# Altium integrated library Maxim Power Mgt Battery Charger.IntLib: 2 symbols
Pins are listed as number, name and electrical type; pins without a type are passive.

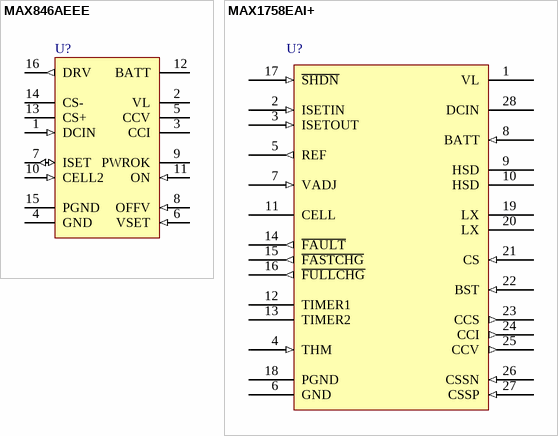
[diagram p0: symbols MAX846AEEE to MAX1758EAI+]

## MAX846AEEE
designator U?
Cost-Saving Multichemistry Battery-Charger System; Published: 16-Jan-2001; LatestRevisionDate: 29-May-2009; LatestRevisionNote: IPC-7351 Footprint Added.; DatasheetVersion: Sep-1996; PackageVersion: 1998; PackageReference: SOP16; Publisher: Altium Limited; PackageDescription: 16-Pin Small Outline Package 0.635 mm Pitch; Code_JEDEC: MO-137-AB; Code_IPC: SOP635P600-16; ComponentLink1Description: Manufacturer Link; ComponentLink1URL: http://www.maxim-ic.com/; ComponentLink2Description: Datasheet; ComponentLink2URL: http://pdfserv.maxim-ic.com/en/ds/MAX846A.pdf
footprint SOP16_N (SOP, 16-Leads, Body 4.9x3.9mm, Pitch 0.635mm, IPC Medium Density)
footprint SOP16_L (SOP, 16-Leads, Body 4.9x3.9mm, Pitch 0.635mm, IPC High Density)
footprint SOP16_M (SOP, 16-Leads, Body 4.9x3.9mm, Pitch 0.635mm, IPC Low Density)
3D model SOP16 (16-Pin Small Outline Package 0.635 mm Pitch)
pins: 1 DCIN (in), 2 VL, 3 CCI, 4 GND (power), 5 CCV, 6 VSET (in), 7 ISET (io), 8 OFFV (in), 9 PWROK (oc), 10 CELL2 (in), 11 ON (in), 12 BATT, 13 CS+, 14 CS-, 15 PGND (power), 16 DRV (out)

## MAX1758EAI+
designator U?
Stand-Alone, Switch-Mode Li+ Battery Charger with Internal 28V Switch; Published: 30-May-2008; DatasheetVersion: Jan-2001; PackageVersion: Jul-2000; PackageReference: SSOP28; Publisher: Altium Limited; PackageDescription: 28-Pin Small Outline Package 0.65 mm Pitch; Code_JEDEC: MO-150-AH; Code_IPC: SOP65P780-28; ComponentLink1Description: Manufacturer Link; ComponentLink1URL: http://www.maxim-ic.com/; ComponentLink2Description: Datasheet; ComponentLink2URL: http://datasheets.maxim-ic.com/en/ds/MAX1758.pdf
footprint SSOP28_N (SOP, 28-Leads, Body 10.2x5.3mm, Pitch 0.65mm, IPC Medium Density)
footprint SSOP28_L (SOP, 28-Leads, Body 10.2x5.3mm, Pitch 0.65mm, IPC High Density)
footprint SSOP28_M (SOP, 28-Leads, Body 10.2x5.3mm, Pitch 0.65mm, IPC Low Density)
pins: 1 VL (power), 2 ISETIN (in), 3 ISETOUT (in), 4 THM (in), 5 REF (out), 6 GND (power), 7 VADJ (in), 8 BATT (in), 9 HSD (oc), 10 HSD (oc), 11 CELL, 12 TIMER1, 13 TIMER2, 14 ~{FAULT} (out), 15 ~{FASTCHG} (out), 16 ~{FULLCHG} (out), 17 ~{SHDN} (in), 18 PGND (power), 19 LX (power), 20 LX (power), 21 CS (in), 22 BST (in), 23 CCS (out), 24 CCI (out), 25 CCV (out), 26 CSSN (in), 27 CSSP (in), 28 DCIN (power)